# Altium schematic symbol library con-stewart.SCHLIB: 1 symbol
Pins are listed as number, name and electrical type; pins without a type are passive.

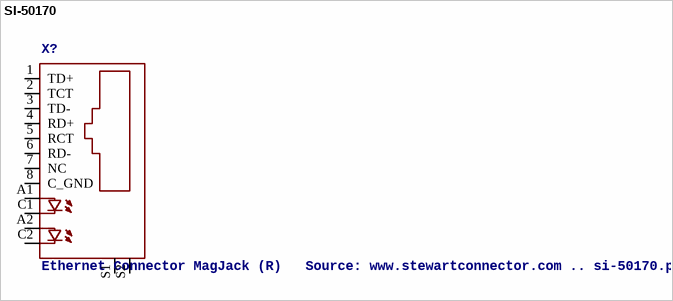
[diagram p0: symbol SI-50170]

## SI-50170
designator X?, comment Ethernet Connector MagJack (R)   Source: www.stewartconnector.com .. si-50170.pdf
OC_FARNELL: unknown; OC_NEWARK: unknown
footprint SI-50170
pins: 1 TD+, 2 TCT, 3 TD-, 4 RD+, 5 RCT, 6 RD-, 7 NC, 8 C_GND, A1 A, A2 A1, C1 C, C2 C1, S1, S2